# Altium schematic symbol library GENERIC_MOISTURE_SENSOR_FINGERS.SchLib: 1 symbol
Pins are listed as number, name and electrical type; pins without a type are passive.

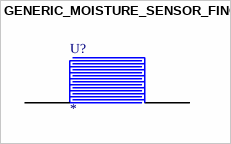
[diagram p0: symbol GENERIC_MOISTURE_SENSOR_FINGERS]

## GENERIC_MOISTURE_SENSOR_FINGERS
designator U?  (no BOM)
pins: 1, 2